# Altium integrated library DIP-20.IntLib: 1 symbol
Pins are listed as number, name and electrical type; pins without a type are passive.

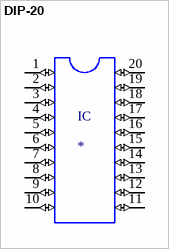
[diagram p0: symbol DIP-20]

## DIP-20
designator IC
Character LCD Display Module Transmissive 5 x 8 Dots STN - Super-Twisted Nematic LED - White SPI 75.00mm x 26.80mm x 10.80mm; MP: DIP-20; MF: Kramer; Price: None; SnapEDA_Link: https://www.snapeda.com/parts/DIP-20/Kramer/view-part/572636/?ref=snap; Availability: Unavailable; Value: *; Package: None
footprint DIP-20-SOCKET
pins: 1 P$1 (io), 2 P$2 (io), 3 P$3 (io), 4 P$4 (io), 5 P$5 (io), 6 P$6 (io), 7 P$7 (io), 8 P$8 (io), 9 P$9 (io), 10 P$10 (io), 11 P$11 (io), 12 P$12 (io), 13 P$13 (io), 14 P$14 (io), 15 P$15 (io), 16 P$16 (io), 17 P$17 (io), 18 P$18 (io), 19 P$19 (io), 20 P$20 (io)